# EAGLE library part MCSP-Q-08-A-SG (library con-adam-tech-sd-socket)
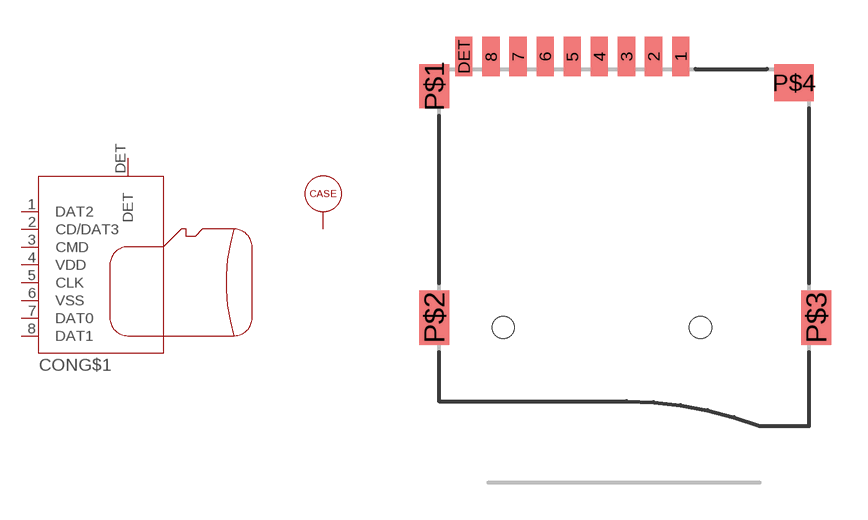
[diagram p0: symbol with the pads of MCSP-Q-08-A-SG; footprint MCSP-Q-08-A-SG]

Designator prefix CON; gates G$1=CARD G$2=CASE

## MCSP-Q-08-A-SG  [MCSP-Q-08-A-SG]
1  G$1:DAT2
2  G$1:CD/DAT3
3  G$1:CMD
4  G$1:VDD  pwr
5  G$1:CLK  in
6  G$1:VSS  pwr
7  G$1:DAT0
8  G$1:DAT1
DET  G$1:DET  pas
P$1  G$2:P$1
P$2  G$2:P$1
P$3  G$2:P$1
P$4  G$2:P$1

## Footprint MCSP-Q-08-A-SG (pad centres in mm)
Based on S00108C drawing
smd 0.7 x 1.6: 1 8.8,0; 2 7.7,0; 3 6.6,0; 4 5.5,0; 5 4.4,0; 6 3.3,0; 7 2.2,0; 8 1.1,0; DET 0,0
smd 1.2 x 1.8: P$1 -1.2,-1.2
smd 1.2 x 2.2: P$2 -1.2,-10.6; P$3 14.3,-10.6
smd 1.6 x 1.5: P$4 13.4,-1.05
hole 0.9 at 1.6,-11
hole 0.9 at 9.6,-11